# Altium footprint library RcMPPTLib.PcbLib: 3 footprints
Each footprint in its own frame and in the unit in brackets; x right, y up, seen from the top. Pads: shape width x height; smd on the part's side, far side on the other; paste and mask are expansions set on the pad; w line width, h text height; cw(c..) or ccw(c..) is an arc to the next point about the centre after c.
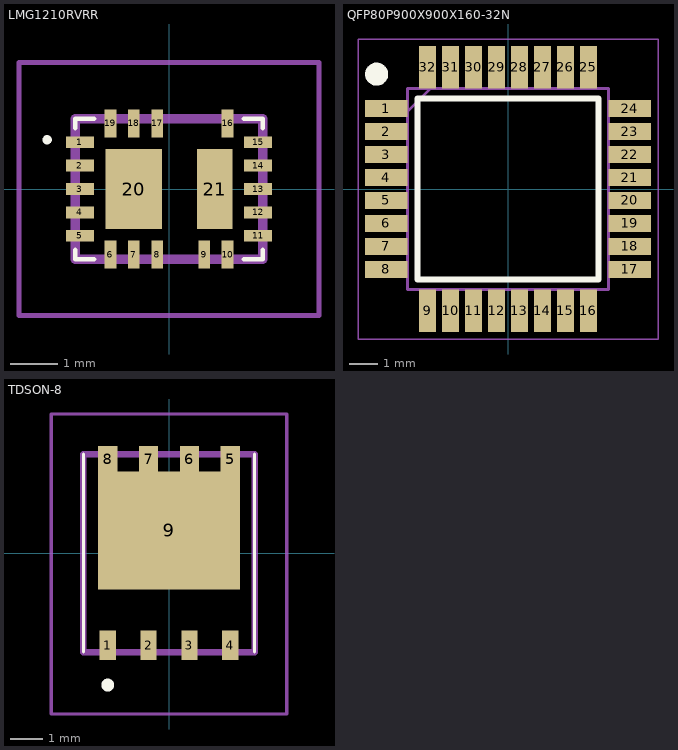
[diagram p0: the footprints below, top view; thin cyan lines are the x and y axes]

## LMG1210RVRR [mm]
pads (21):
  rect 0.6x0.25 smd: 1(-1.9,1) 2(-1.9,0.5) 3(-1.9,0) 4(-1.9,-0.5) 5(-1.9,-1) 11(1.9,-1) 12(1.9,-0.5) 13(1.9,0) 14(1.9,0.5) 15(1.9,1)
  rect 0.25x0.6 smd: 6(-1.25,-1.4) 7(-0.75,-1.4) 8(-0.25,-1.4) 9(0.75,-1.4) 10(1.25,-1.4) 16(1.25,1.4) 17(-0.25,1.4) 18(-0.75,1.4) 19(-1.25,1.4)
  rect 1.2x1.7 smd: 20(-0.75,0)
  rect 0.75x1.7 smd: 21(0.975,0)
Top Overlay:
  lines w0.1: -2,-1.3 -2,-1.5 -1.6,-1.5 ; -2,1.3 -2,1.5 -1.6,1.5 ; 1.6,-1.5 2,-1.5 2,-1.3 ; 1.6,1.5 2,1.5 2,1.3 ; -2.6,1 ccw(c-2.6,1.05) -2.6,1.1 ccw(c-2.6,1.05) -2.6,1
Mechanical 13:
  lines w0.2: -2,-1.5 -2,1.5 2,1.5 2,-1.5 -2,-1.5
Mechanical 15:
  lines w0.1: -3.2,-2.7 -3.2,2.7 3.2,2.7 3.2,-2.7 -3.2,-2.7
3D body "LMG1210RVRR.stp": height 0.9, standoff 0, extent -2,-1.5 2,1.5

## QFP80P900X900X160-32N [mm]
pads (32):
  rect 1.475x0.6 smd: 1(-4.238,2.8) 2(-4.238,2) 3(-4.238,1.2) 4(-4.238,0.4) 5(-4.238,-0.4) 6(-4.238,-1.2) 7(-4.238,-2) 8(-4.238,-2.8) 17(4.238,-2.8) 18(4.238,-2) 19(4.238,-1.2) 20(4.238,-0.4) 21(4.238,0.4) 22(4.238,1.2) 23(4.238,2) 24(4.238,2.8)
  rect 0.6x1.475 smd: 9(-2.8,-4.238) 10(-2,-4.238) 11(-1.2,-4.238) 12(-0.4,-4.238) 13(0.4,-4.238) 14(1.2,-4.238) 15(2,-4.238) 16(2.8,-4.238) 25(2.8,4.238) 26(2,4.238) 27(1.2,4.238) 28(0.4,4.238) 29(-0.4,4.238) 30(-1.2,4.238) 31(-2,4.238) 32(-2.8,4.238)
Top Overlay:
  circle w0.4: c-4.575,4 r0.2
  lines w0.2: -3.15,-3.15 -3.15,3.15 3.15,3.15 3.15,-3.15 -3.15,-3.15
Mechanical 13:
  lines w0.1: -3.5,2.7 -2.7,3.5 ; -3.5,-3.5 -3.5,3.5 3.5,3.5 3.5,-3.5 -3.5,-3.5
Mechanical 15:
  lines w0.05: -5.225,-5.225 -5.225,5.225 5.225,5.225 5.225,-5.225 -5.225,-5.225
3D body "STM32F334K8T6.stp": height 1.6, standoff 0, extent -4.5,-4.5 4.5,4.5

## TDSON-8 [mm]
pads (9):
  rect 0.5x0.925 smd: 1(-1.905,-2.865) 2(-0.635,-2.865) 3(0.635,-2.865) 4(1.905,-2.865)
  rect 0.6x0.8 smd: 5(1.905,2.925) 6(0.635,2.925) 7(-0.635,2.925) 8(-1.905,2.925)
  rect 4.41x3.655 smd: 9(0,0.705)
Top Overlay:
  lines w0.1: -2.66,-3.075 -2.66,3.075 ; 2.66,-3.075 2.66,3.075
  lines w0.2: -1.905,-4.2 cw(c-1.905,-4.1) -1.905,-4 cw(c-1.905,-4.1) -1.905,-4.2
Mechanical 13:
  lines w0.2: -2.66,-3.075 2.66,-3.075 2.66,3.075 -2.66,3.075 -2.66,-3.075
Mechanical 15:
  lines w0.1: -3.66,-5 3.66,-5 3.66,4.325 -3.66,4.325 -3.66,-5
3D body "BSC009NE2LS5ATMA1.stp": height 1.2, standoff 0, extent -2.66,-3.277 2.66,3.265